# Altium schematic symbol library 9-2176093-5.SchLib: 1 symbol
Pins are listed as number, name and electrical type; pins without a type are passive.

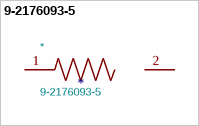
[diagram p0: symbol 9-2176093-5]

## 9-2176093-5
designator *  value 9-2176093-5
\n                        \n                            RP 2A 0.25W 102K 0.1% 25PPM 1K RL Resistor Type: Precision Resistor Number of Terminations: 2 Package Size Code: 0805 Packaging Method: Taped & Reeled Passive Component Tolerance: .1 % Precision Resistor 2 0805 Taped & Reeled | Surface Mount Resistor | Part Number: 9-2176093-5 | Internal Number: 9-2176093-5 | Alias Number: RP73PF2A102KBTDF | TE Connectivity\n                        \n; MP: 921760935; Footprint: 9-2176093-5:RESC2012X65N; MF: TE Connectivity; Description_: \n                        \n                            RP 2A 0.25W 102K 0.1% 25PPM 1K RL Resistor Type: Precision Resistor Number of Terminations: 2 Package Size Code: 0805 Packaging Method: Taped & Reeled Passive Component Tolerance: .1 % Precision Resistor 2 0805 Taped & Reeled | Surface Mount Resistor | Part Number: 9-2176093-5 | Internal Number: 9-2176093-5 | Alias Number: RP73PF2A102KBTDF | TE Connectivity\n                        \n; Package: None; Price: None; SnapEDA_Link: https://www.snapeda.com/parts/921760935/TE+Connectivity/view-part/?ref=snap; Availability: In Stock; Check_prices: https://www.snapeda.com/parts/921760935/TE+Connectivity/view-part/?ref=eda
footprint RESC2012X65N
pins: 1, 2